# EAGLE library part ST25DV64KC (library SparkFun-RF)
Dynamic NFC/RFID Dynamic NFC/RFID tag IC with 4-Kbit, 16-Kbit or 64-Kbit EEPROM, fast transfer mode capability and optimized I2C.
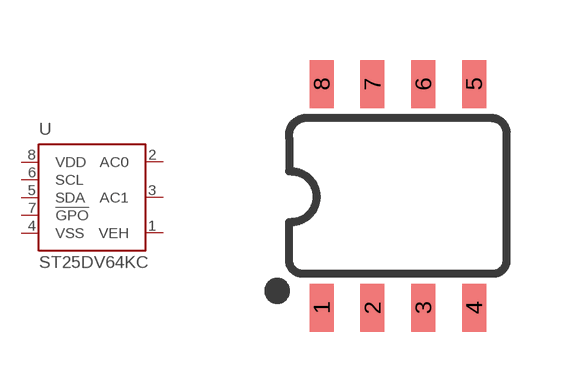
[diagram p49: symbol with the pads of SO08; footprint SO08]

Designator prefix U

## ST25DV64KC (PROD_ID: IC-16315)  [SO08]
1  VEH  pwr
2  AC0
3  AC1
4  VSS  pwr
5  SDA
6  SCL
7  !GPO!  out
8  VDD  pwr

## Footprint SO08 (pad centres in mm)
SOIC, 0.15 inch width
smd 0.6 x 1.2: 1 -1.905,-2.8; 2 -0.635,-2.8; 3 0.635,-2.8; 4 1.905,-2.8; 5 1.905,2.8; 6 0.635,2.8; 7 -0.635,2.8; 8 -1.905,2.8